# Altium schematic symbol library DSUBconnector.SchLib: 2 symbols
Pins are listed as number, name and electrical type; pins without a type are passive.

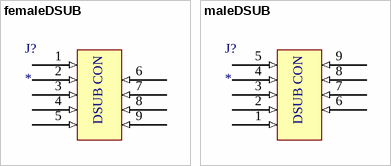
[diagram p0: symbols femaleDSUB to maleDSUB]

## femaleDSUB
designator J?
footprint DSUBfemale
pins: 1 (in), 2 (in), 3 (in), 4 (in), 5 (in), 6 (in), 7 (in), 8 (in), 9 (in)
text: DSUB CON

## maleDSUB
designator J?
footprint DSUBmale
pins: 1 (in), 2 (in), 3 (in), 4 (in), 5 (in), 6 (in), 7 (in), 8 (in), 9 (in)
text: DSUB CON